# Altium integrated library LIF-MD6000-6JMG80I.IntLib: 1 symbol
Pins are listed as number, name and electrical type; pins without a type are passive.

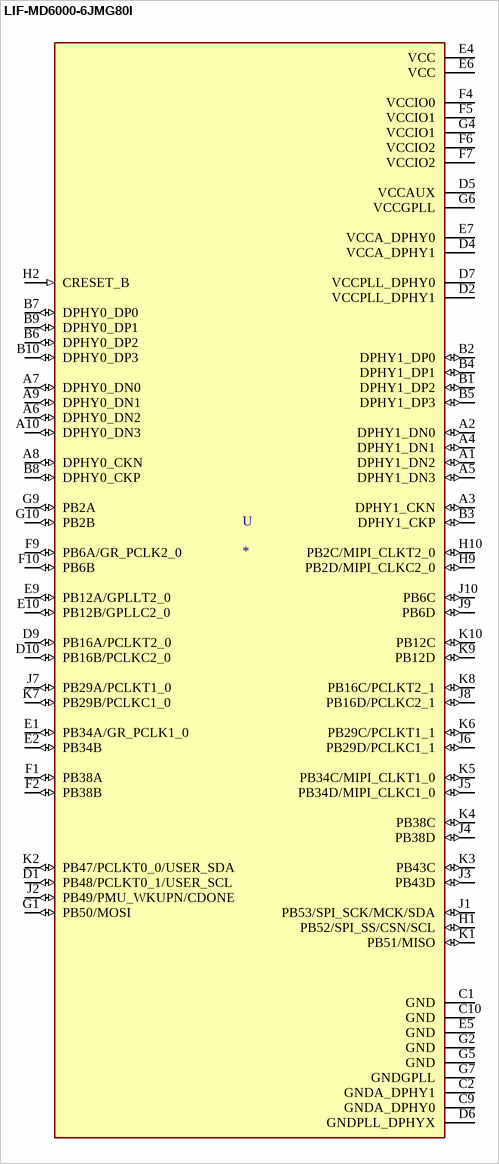
[diagram p0: symbol LIF-MD6000-6JMG80I]

## LIF-MD6000-6JMG80I
designator U
IC FPGA 37 I/O 80CTFBGA; MF: Lattice Semiconductor; MP: LIF-MD6000-6JMG80I; Value: *; SnapEDA_Link: https://www.snapeda.com/parts/LIF-MD6000-6JMG80I/Lattice%20Semiconductor%20Corporation/view-part/876553/?ref=snap; Price: None; Availability: Unavailable; Package: VFBGA-80 Lattice Semiconductor
footprint BGA80C65P10X10_650X650X100N
pins: A1 DPHY1_DN2 (io), A2 DPHY1_DN0 (io), A3 DPHY1_CKN (io), A4 DPHY1_DN1 (io), A5 DPHY1_DN3 (io), A6 DPHY0_DN2 (io), A7 DPHY0_DN0 (io), A8 DPHY0_CKN (io), A9 DPHY0_DN1 (io), A10 DPHY0_DN3 (io), B1 DPHY1_DP2 (io), B2 DPHY1_DP0 (io), B3 DPHY1_CKP (io), B4 DPHY1_DP1 (io), B5 DPHY1_DP3 (io), B6 DPHY0_DP2 (io), B7 DPHY0_DP0 (io), B8 DPHY0_CKP (io), B9 DPHY0_DP1 (io), B10 DPHY0_DP3 (io), C1 GND (power), C2 GNDA_DPHY1 (power), C9 GNDA_DPHY0 (power), C10 GND (power), D1 PB48/PCLKT0_1/USER_SCL (io), D2 VCCPLL_DPHY1 (power), D4 VCCA_DPHY1 (power), D5 VCCAUX (power), D6 GNDPLL_DPHYX (power), D7 VCCPLL_DPHY0 (power), D9 PB16A/PCLKT2_0 (io), D10 PB16B/PCLKC2_0 (io), E1 PB34A/GR_PCLK1_0 (io), E2 PB34B (io), E4 VCC (power), E5 GND (power), E6 VCC (power), E7 VCCA_DPHY0 (power), E9 PB12A/GPLLT2_0 (io), E10 PB12B/GPLLC2_0 (io), F1 PB38A (io), F2 PB38B (io), F4 VCCIO0 (power), F5 VCCIO1 (power), F6 VCCIO2 (power), F7 VCCIO2 (power), F9 PB6A/GR_PCLK2_0 (io), F10 PB6B (io), G1 PB50/MOSI (io), G2 GND (power), G4 VCCIO1 (power), G5 GND (power), G6 VCCGPLL (power), G7 GNDGPLL (power), G9 PB2A (io), G10 PB2B (io), H1 PB52/SPI_SS/CSN/SCL (io), H2 CRESET_B (in), H9 PB2D/MIPI_CLKC2_0 (io), H10 PB2C/MIPI_CLKT2_0 (io), J1 PB53/SPI_SCK/MCK/SDA (io), J2 PB49/PMU_WKUPN/CDONE (io), J3 PB43D (io), J4 PB38D (io), J5 PB34D/MIPI_CLKC1_0 (io), J6 PB29D/PCLKC1_1 (io), J7 PB29A/PCLKT1_0 (io), J8 PB16D/PCLKC2_1 (io), J9 PB6D (io), J10 PB6C (io), K1 PB51/MISO (io), K2 PB47/PCLKT0_0/USER_SDA (io), K3 PB43C (io), K4 PB38C (io), K5 PB34C/MIPI_CLKT1_0 (io), K6 PB29C/PCLKT1_1 (io), K7 PB29B/PCLKC1_0 (io), K8 PB16C/PCLKT2_1 (io), K9 PB12D (io), K10 PB12C (io)